# Altium schematic symbol library Sound.SchLib: 1 symbol
Pins are listed as number, name and electrical type; pins without a type are passive.

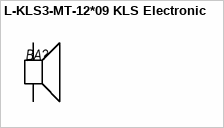
[diagram p0: symbol L-KLS3-MT-12*09 KLS Electronic]

## L-KLS3-MT-12*09 KLS Electronic
designator BA?  (value not drawn)
pins: 1, 2